# Altium schematic symbol library SMD_Generic.SchLib: 2 symbols
Pins are listed as number, name and electrical type; pins without a type are passive.

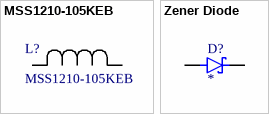
[diagram p0: symbols MSS1210-105KEB to Zener Diode]

## MSS1210-105KEB
designator L?
No Description Available; Mfr_Name: Coilcraft; Type: DEV; Copyright: Copyright (C) 2024 Ultra Librarian. All rights reserved.; Manufacturer_Part_Number: MSS1210-105KEB; RefDes: RefDes
footprint IND_MSS1210_COC-L
pins: 1, 2

## Zener Diode
designator D?
Zener Diode Single 15V 5% 14Ohm 1000mW 2-Pin DO-41 Bag; MF: onsemi; MP: 1N4744A; SnapEDA_Link: https://www.snapeda.com/parts/1N4744A/Onsemi/view-part/?ref=snap; Package: DO-41 ON Semiconductor; Value: *; Check_prices: https://www.snapeda.com/parts/1N4744A/Onsemi/view-part/?ref=eda
footprint 0805
pins: 1 K, 2 A